# Altium footprint library EMG_DRL_Controlled_R3.PcbLib: 4 footprints
Each footprint in its own frame and in the unit in brackets; x right, y up, seen from the top. Pads: shape width x height; smd on the part's side, far side on the other; paste and mask are expansions set on the pad; w line width, h text height; cw(c..) or ccw(c..) is an arc to the next point about the centre after c.

## EMG_DRL_C0402 [mm] "DRL DNP provision; manufacturer recommended lands; assembly outline only, no STEP body"
height 0.55

## EMG_DRL_R0603 [mm] "DRL DNP provision; manufacturer recommended lands; assembly outline only, no STEP body"
height 0.55

## EMG_MCP6401_SOT23_5 [mm] "Microchip MCP6401T-E/OT; DS20002229E p29 C04-2091-OT RevH; numeric pads1-5; assembly outline only, no STEP body"
height 1.45

## PCBComponent_1 [mm]